# Altium footprint library SW-SMD-SPE.PcbLib: 1 footprints
Each footprint in its own frame and in the unit in brackets; x right, y up, seen from the top. Pads: shape width x height; smd on the part's side, far side on the other; paste and mask are expansions set on the pad; w line width, h text height; cw(c..) or ccw(c..) is an arc to the next point about the centre after c.
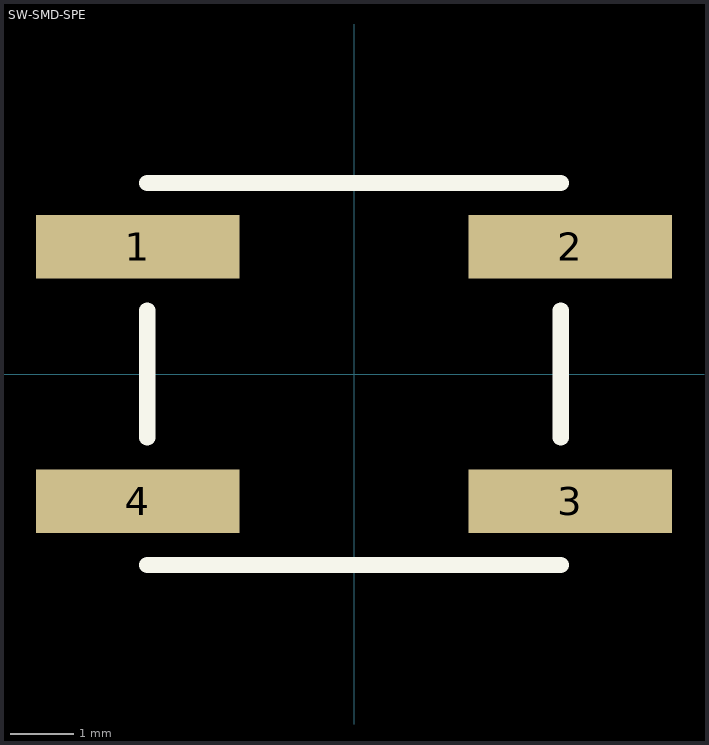
[diagram p0: the footprint, top view; thin cyan lines are the x and y axes]

## SW-SMD-SPE [mm]
pads (4):
  rect 3.2x1 smd: 1(-3.4,2) 2(3.4,2) 3(3.4,-2) 4(-3.4,-2)
Top Overlay:
  lines w0.254: -3.25,-3 3.25,-3 ; -3.25,-1 -3.25,1 ; -3.25,3 3.25,3 ; 3.25,-1 3.25,1
3D body: height 1.5, standoff 0, extent -0.992,-0.998 1,0.998
3D body: height 1, standoff 0.1, extent -3.25,-3 3.25,3